# EAGLE library part AD736R (library FreeSmartEEG)
ANALOG DEVICES
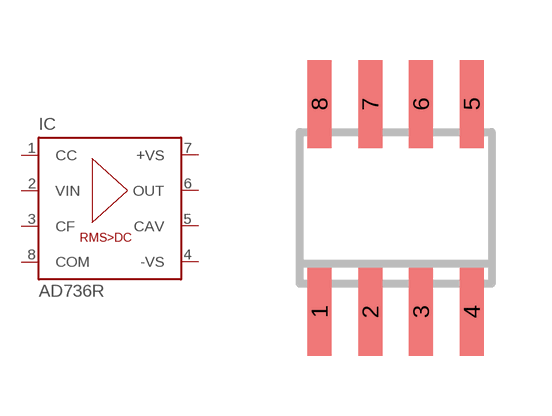
[diagram p7: symbol with the pads of SO8; footprint SO8]

Designator prefix IC

## AD736R (MPN: AD736JRZ; OC_FARNELL: 1701156; OC_NEWARK: 19M0863)  [SO8]
1  CC  pas
2  VIN  in
3  CF  pas
4  -VS  pwr
5  CAV  out
6  OUT  out
7  +VS  pwr
8  COM  pwr

## Footprint SO8 (pad centres in mm)
8-Lead Small Outline IC (SO-8) Source: http://www.analog.com/UploadedFiles/Data_Sheets/703465986AD8611_2_0.pdf
smd 0.6 x 2.2: 1 -1.905,-2.6; 2 -0.635,-2.6; 3 0.635,-2.6; 4 1.905,-2.6; 5 1.905,2.6; 6 0.635,2.6; 7 -0.635,2.6; 8 -1.905,2.6